# Altium footprint library Modules.PcbLib: 17 footprints (part 2 of 2)
Each footprint in its own frame and in the unit in brackets; x right, y up, seen from the top. Pads: shape width x height; smd on the part's side, far side on the other; paste and mask are expansions set on the pad; w line width, h text height; cw(c..) or ccw(c..) is an arc to the next point about the centre after c.
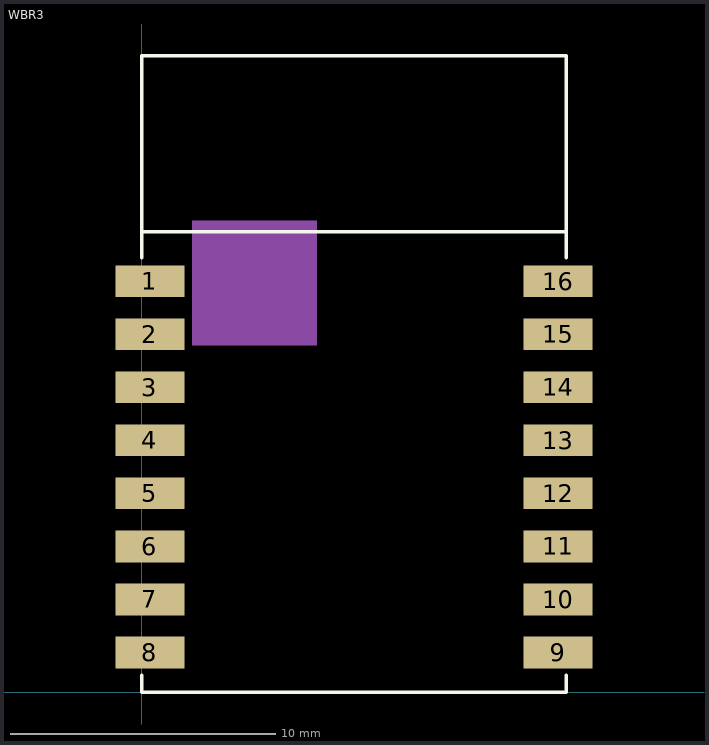
[diagram p1: the footprint, top view; thin cyan lines are the x and y axes]

## WBR3 [mm] "Tuya WBR3 WiFi-BT"
height 2.8
pads (16):
  rect 2.6x1.2 smd: 1(0.3,15.5) 2(0.3,13.5) 3(0.3,11.5) 4(0.3,9.5) 5(0.3,7.5) 6(0.3,5.5) 7(0.3,3.5) 8(0.3,1.5) 9(15.7,1.5) 10(15.7,3.5) 11(15.7,5.5) 12(15.7,7.5) 13(15.7,9.5) 14(15.7,11.5) 15(15.7,13.5) 16(15.7,15.5)
Top Overlay:
  lines w0.127: -0.001,0 -0.001,0.635 ; -0.001,16.383 -0.001,24 ; 0,0 16,0 16,0.635 ; 0,17.37 16,17.37 ; 0,24 16,24 16,16.383
Mechanical 1:
  pour cut-out: 1.905,17.78 6.604,17.78 6.604,13.081 1.905,13.081
3D body: height 0.8, standoff 0, extent -0.001,0 16.001,24
3D body: height 2.8, standoff 0.8, extent 1.5,1.5 14.5,16.6